# Altium schematic symbol library CUBIC_FC.SchLib: 143 symbols (part 6 of 8)
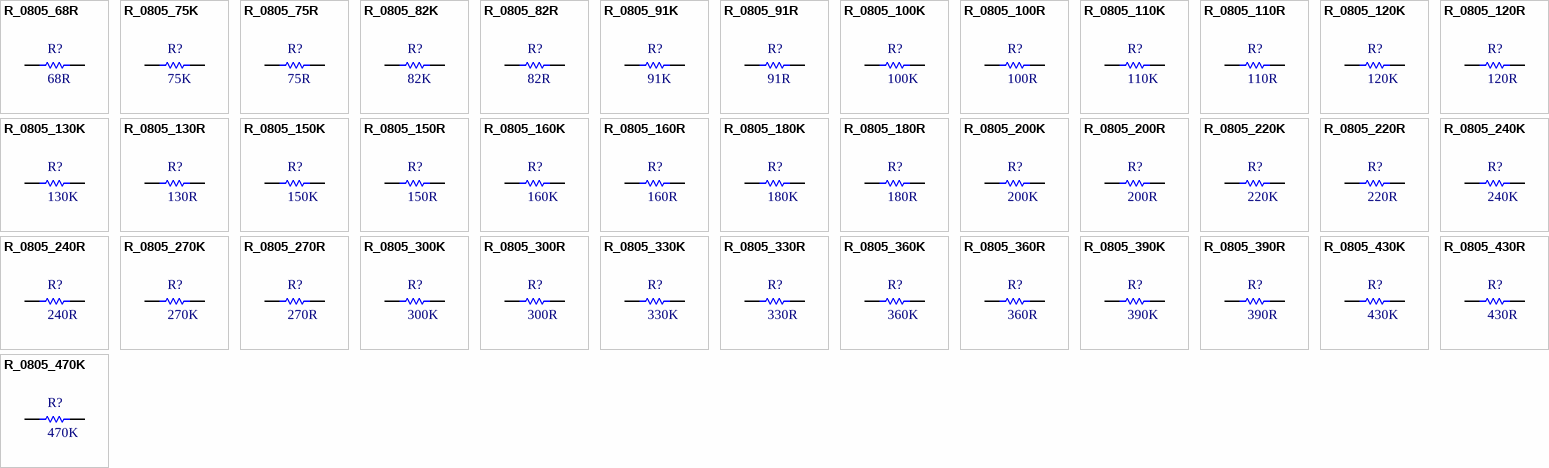
[diagram p8: symbols R_0805_68R to R_0805_470K]

## R_0805_150R
designator R?, comment 150R
Fixed Resistor, Metal Glaze/thick Film, 0.125W, 150ohm, 150V, 1% +/-Tol, 100ppm/Cel, Surface Mount, 0805; Manufacturer: Panasonic; Manufacturer Part Number: ERJ-6ENF1500V; Power: 125mW; Rated Temperature: 70°C; Temperature Coefficient: 100ppm/°C; Package Height: 0.6mm; Package Length: 2mm; Package Width: 1.25mm; Reference Standard: AEC-Q200; Supplier: Digikey; Supplier Part Number: P150CCT-ND; RoHS: Yes; Category: Chip SMD Resistors; Stock: 154466; Pricing: 1=0.11, 10=0.053, 50=0.0344, 100=0.0292, 500=0.02058, 1000=0.01792 (USD); Mounting Technology: Surface Mount; Pins: 2; Package Shape: Rectangular; Case/Package: 0805; Terminal Finish: Nickel; Min Operating Temperature: -55°C; Max Operating Temperature: 155°C; Tolerance: 1%; JESD-609 Code: e3; Resistor Type: FIXED RESISTOR; Construction: Rectangular; Package Style: SMTMeter; Packaging: Tape and Reel; Value: 150R; Technology: METAL GLAZE/THICK FILM; Termination: Wraparound; Working Voltage: 150V; Reach SVHC Compliant: Yes; RoHS Compliant: Yes; ComponentLink1URL: https://datasheet.ciiva.com:443/pdfs/VipMasterIC/IC/PANA/PANA-S-A0009889626/PANA-S-A0009889626-1.pdf?src-supplier=IHS+Markit; ComponentLink1Description: https://datasheet.ciiva.com:443/pdfs/VipMasterIC/IC/PANA/PANA-S-A0009889626/PANA-S-A0009889626-1.pdf?src-supplier=IHS+Markit; ComponentLink2URL: https://datasheet.ciiva.com/6082/426256-6082141.pdf?src-supplier=Farnell; ComponentLink2Description: https://datasheet.ciiva.com/6082/426256-6082141.pdf?src-supplier=Farnell; ComponentLink3URL: https://datasheet.ciiva.com/48531/aoa0000ce2-48531404.pdf?src-supplier=Avnet; ComponentLink3Description: https://datasheet.ciiva.com/48531/aoa0000ce2-48531404.pdf?src-supplier=Avnet
footprint R_0805 (Chip Resistor, 2-Leads, Body 2.00x1.25mm, IPC Low Density)
pins: 1, 2

## R_0805_160K
designator R?, comment 160K
Fixed Resistor, Metal Glaze/thick Film, 0.125W, 160000ohm, 150V, 1% +/-Tol, 100ppm/Cel, Surface Mount, 0805; Manufacturer: Panasonic; Manufacturer Part Number: ERJ-6ENF1603V; Power: 125mW; Rated Temperature: 70°C; Value: 160kR; Temperature Coefficient: 100ppm/°C; Package Height: 0.6mm; Package Length: 2mm; Package Width: 1.25mm; Reference Standard: AEC-Q200; Supplier: Digikey; Supplier Part Number: P160KCCT-ND; RoHS: Yes; Category: Chip SMD Resistors; Stock: 103946; Pricing: 1=0.11, 10=0.053, 50=0.0344, 100=0.0292, 500=0.02058, 1000=0.01792 (USD); Mounting Technology: Surface Mount; Pins: 2; Package Shape: Rectangular; Case/Package: 0805; Terminal Finish: Nickel; Min Operating Temperature: -55°C; Max Operating Temperature: 155°C; Tolerance: 1%; JESD-609 Code: e3; Resistor Type: FIXED RESISTOR; Construction: Rectangular; Package Style: SMTMeter; Packaging: Tape and Reel; Technology: METAL GLAZE/THICK FILM; Termination: Wraparound; Working Voltage: 150V; Reach SVHC Compliant: Yes; RoHS Compliant: Yes; ComponentLink1URL: https://datasheet.ciiva.com:443/pdfs/VipMasterIC/IC/PANA/PANA-S-A0009889626/PANA-S-A0009889626-1.pdf?src-supplier=IHS+Markit; ComponentLink1Description: https://datasheet.ciiva.com:443/pdfs/VipMasterIC/IC/PANA/PANA-S-A0009889626/PANA-S-A0009889626-1.pdf?src-supplier=IHS+Markit; ComponentLink2URL: https://datasheet.ciiva.com/9185/aoa0000ce2-9185402.pdf?src-supplier=Avnet; ComponentLink2Description: https://datasheet.ciiva.com/9185/aoa0000ce2-9185402.pdf?src-supplier=Avnet; ComponentLink3URL: https://datasheet.ciiva.com/22674/1678782-22674517.pdf?src-supplier=Element14; ComponentLink3Description: https://datasheet.ciiva.com/22674/1678782-22674517.pdf?src-supplier=Element14; ComponentLink4URL: https://datasheet.ciiva.com/22739/1678782-22739739.pdf?src-supplier=Element14; ComponentLink4Description: https://datasheet.ciiva.com/22739/1678782-22739739.pdf?src-supplier=Element14; ComponentLink5URL: https://datasheet.ciiva.com/46436/1678782-46436469.pdf?src-supplier=Element14; ComponentLink5Description: https://datasheet.ciiva.com/46436/1678782-46436469.pdf?src-supplier=Element14; ComponentLink6URL: https://datasheet.ciiva.com/46436/1678782-46436470.pdf?src-supplier=Element14; ComponentLink6Description: https://datasheet.ciiva.com/46436/1678782-46436470.pdf?src-supplier=Element14; ComponentLink7URL: https://datasheet.ciiva.com/24060/aoa0000ce2-24060654.pdf?src-supplier=Mouser; ComponentLink7Description: https://datasheet.ciiva.com/24060/aoa0000ce2-24060654.pdf?src-supplier=Mouser
footprint R_0805 (Chip Resistor, 2-Leads, Body 2.00x1.25mm, IPC Low Density)
pins: 1, 2

## R_0805_160R
designator R?, comment 160R
Fixed Resistor, Metal Glaze/thick Film, 0.125W, 160ohm, 150V, 1% +/-Tol, 100ppm/Cel, Surface Mount, 0805; Manufacturer: Panasonic; Manufacturer Part Number: ERJ-6ENF1600V; Power: 125mW; Rated Temperature: 70°C; Temperature Coefficient: 100ppm/°C; Package Height: 0.6mm; Package Length: 2mm; Package Width: 1.25mm; Reference Standard: AEC-Q200; Supplier: Digikey; Supplier Part Number: P160CCT-ND; RoHS: Yes; Category: Chip SMD Resistors; Stock: 83504; Pricing: 1=0.11, 10=0.053, 50=0.0344, 100=0.0292, 500=0.02058, 1000=0.01792 (USD); Mounting Technology: Surface Mount; Pins: 2; Package Shape: Rectangular; Case/Package: 0805; Terminal Finish: Nickel; Min Operating Temperature: -55°C; Max Operating Temperature: 155°C; Tolerance: 1%; JESD-609 Code: e3; Resistor Type: FIXED RESISTOR; Construction: Rectangular; Package Style: SMTMeter; Packaging: Tape and Reel; Value: 160R; Technology: METAL GLAZE/THICK FILM; Termination: Wraparound; Working Voltage: 150V; Reach SVHC Compliant: Yes; RoHS Compliant: Yes; ComponentLink1URL: https://datasheet.ciiva.com:443/pdfs/VipMasterIC/IC/PANA/PANA-S-A0009889626/PANA-S-A0009889626-1.pdf?src-supplier=IHS+Markit; ComponentLink1Description: https://datasheet.ciiva.com:443/pdfs/VipMasterIC/IC/PANA/PANA-S-A0009889626/PANA-S-A0009889626-1.pdf?src-supplier=IHS+Markit; ComponentLink2URL: https://datasheet.ciiva.com/11821/0900766b80f80784-11821554.pdf?src-supplier=Rs; ComponentLink2Description: https://datasheet.ciiva.com/11821/0900766b80f80784-11821554.pdf?src-supplier=Rs; ComponentLink3URL: https://datasheet.ciiva.com/9185/aoa0000ce2-9185326.pdf?src-supplier=Avnet; ComponentLink3Description: https://datasheet.ciiva.com/9185/aoa0000ce2-9185326.pdf?src-supplier=Avnet; ComponentLink4URL: https://datasheet.ciiva.com/30235/aoa0000ce2-30235786.pdf?src-supplier=Onlinecomponents.com; ComponentLink4Description: https://datasheet.ciiva.com/30235/aoa0000ce2-30235786.pdf?src-supplier=Onlinecomponents.com; ComponentLink5URL: https://datasheet.ciiva.com/22739/1678782-22739487.pdf?src-supplier=Element14; ComponentLink5Description: https://datasheet.ciiva.com/22739/1678782-22739487.pdf?src-supplier=Element14; ComponentLink6URL: https://datasheet.ciiva.com/46373/1678782-46373482.pdf?src-supplier=Element14; ComponentLink6Description: https://datasheet.ciiva.com/46373/1678782-46373482.pdf?src-supplier=Element14; ComponentLink7URL: https://datasheet.ciiva.com/46373/1678782-46373483.pdf?src-supplier=Element14; ComponentLink7Description: https://datasheet.ciiva.com/46373/1678782-46373483.pdf?src-supplier=Element14; ComponentLink8URL: https://datasheet.ciiva.com/24165/aoa0000ce2-24165414.pdf?src-supplier=Mouser; ComponentLink8Description: https://datasheet.ciiva.com/24165/aoa0000ce2-24165414.pdf?src-supplier=Mouser
footprint R_0805 (Chip Resistor, 2-Leads, Body 2.00x1.25mm, IPC Low Density)
pins: 1, 2

## R_0805_180K
designator R?, comment 180K
Fixed Resistor, Metal Glaze/thick Film, 0.125W, 180000ohm, 150V, 1% +/-Tol, 100ppm/Cel, Surface Mount, 0805; Manufacturer: Panasonic; Manufacturer Part Number: ERJ-6ENF1803V; Power: 125mW; Rated Temperature: 70°C; Value: 180kR; Temperature Coefficient: 100ppm/°C; Package Height: 0.6mm; Package Length: 2mm; Package Width: 1.25mm; Reference Standard: AEC-Q200; Supplier: Digikey; Supplier Part Number: P180KCCT-ND; RoHS: Yes; Category: Chip SMD Resistors; Stock: 63213; Pricing: 1=0.11, 10=0.053, 50=0.0344, 100=0.0292, 500=0.02058, 1000=0.01792 (USD); Mounting Technology: Surface Mount; Pins: 2; Package Shape: Rectangular; Case/Package: 0805; Terminal Finish: Nickel; Min Operating Temperature: -55°C; Max Operating Temperature: 155°C; Tolerance: 1%; JESD-609 Code: e3; Resistor Type: FIXED RESISTOR; Construction: Rectangular; Package Style: SMTMeter; Packaging: Tape and Reel; Technology: METAL GLAZE/THICK FILM; Termination: Wraparound; Working Voltage: 150V; Reach SVHC Compliant: Yes; RoHS Compliant: Yes; ComponentLink1URL: https://datasheet.ciiva.com:443/pdfs/VipMasterIC/IC/PANA/PANA-S-A0009889626/PANA-S-A0009889626-1.pdf?src-supplier=IHS+Markit; ComponentLink1Description: https://datasheet.ciiva.com:443/pdfs/VipMasterIC/IC/PANA/PANA-S-A0009889626/PANA-S-A0009889626-1.pdf?src-supplier=IHS+Markit; ComponentLink2URL: https://datasheet.ciiva.com/11821/0900766b80f80784-11821551.pdf?src-supplier=Rs; ComponentLink2Description: https://datasheet.ciiva.com/11821/0900766b80f80784-11821551.pdf?src-supplier=Rs; ComponentLink3URL: https://datasheet.ciiva.com/5915/426256-5915338.pdf?src-supplier=Farnell; ComponentLink3Description: https://datasheet.ciiva.com/5915/426256-5915338.pdf?src-supplier=Farnell; ComponentLink4URL: https://datasheet.ciiva.com/24024/aoa0000ce2-24024447.pdf?src-supplier=Mouser; ComponentLink4Description: https://datasheet.ciiva.com/24024/aoa0000ce2-24024447.pdf?src-supplier=Mouser; ComponentLink5URL: https://datasheet.ciiva.com/9185/aoa0000ce2-9185015.pdf?src-supplier=Avnet; ComponentLink5Description: https://datasheet.ciiva.com/9185/aoa0000ce2-9185015.pdf?src-supplier=Avnet; ComponentLink6URL: https://datasheet.ciiva.com/16758/70260748-16758997.pdf?src-supplier=Allied+Electronics; ComponentLink6Description: https://datasheet.ciiva.com/16758/70260748-16758997.pdf?src-supplier=Allied+Electronics; ComponentLink7URL: https://datasheet.ciiva.com/16780/70260748-16780877.pdf?src-supplier=Allied+Electronics; ComponentLink7Description: https://datasheet.ciiva.com/16780/70260748-16780877.pdf?src-supplier=Allied+Electronics; ComponentLink8URL: https://datasheet.ciiva.com/28568/1678782-28568746.pdf?src-supplier=Element14; ComponentLink8Description: https://datasheet.ciiva.com/28568/1678782-28568746.pdf?src-supplier=Element14; ComponentLink9URL: https://datasheet.ciiva.com/46398/1678782-46398138.pdf?src-supplier=Element14; ComponentLink9Description: https://datasheet.ciiva.com/46398/1678782-46398138.pdf?src-supplier=Element14; ComponentLink10URL: https://datasheet.ciiva.com/22681/1678782-22681691.pdf?src-supplier=Element14; ComponentLink10Description: https://datasheet.ciiva.com/22681/1678782-22681691.pdf?src-supplier=Element14; ComponentLink11URL: https://datasheet.ciiva.com/46398/1678782-46398137.pdf?src-supplier=Element14; ComponentLink11Description: https://datasheet.ciiva.com/46398/1678782-46398137.pdf?src-supplier=Element14; ComponentLink12URL: https://datasheet.ciiva.com/30187/aoa0000ce2-30187757.pdf?src-supplier=Onlinecomponents.com; ComponentLink12Description: https://datasheet.ciiva.com/30187/aoa0000ce2-30187757.pdf?src-supplier=Onlinecomponents.com; ComponentLink13URL: https://datasheet.ciiva.com/7836/426256-7836535.pdf?src-supplier=Element14; ComponentLink13Description: https://datasheet.ciiva.com/7836/426256-7836535.pdf?src-supplier=Element14; ComponentLink14URL: https://datasheet.ciiva.com/7836/426256-7836822.pdf?src-supplier=Element14; ComponentLink14Description: https://datasheet.ciiva.com/7836/426256-7836822.pdf?src-supplier=Element14
footprint R_0805 (Chip Resistor, 2-Leads, Body 2.00x1.25mm, IPC Low Density)
pins: 1, 2

## R_0805_180R
designator R?, comment 180R
Fixed Resistor, Metal Glaze/thick Film, 0.125W, 180ohm, 150V, 1% +/-Tol, 100ppm/Cel, Surface Mount, 0805; Manufacturer: Panasonic; Manufacturer Part Number: ERJ-6ENF1800V; Power: 125mW; Rated Temperature: 70°C; Temperature Coefficient: 100ppm/°C; Package Height: 0.6mm; Package Length: 2mm; Package Width: 1.25mm; Reference Standard: AEC-Q200; Supplier: Digikey; Supplier Part Number: P180CCT-ND; RoHS: Yes; Category: Chip SMD Resistors; Stock: 81166; Pricing: 1=0.11, 10=0.053, 50=0.0344, 100=0.0292, 500=0.02058, 1000=0.01792 (USD); Mounting Technology: Surface Mount; Pins: 2; Package Shape: Rectangular; Case/Package: 0805; Terminal Finish: Nickel; Min Operating Temperature: -55°C; Max Operating Temperature: 155°C; Tolerance: 1%; JESD-609 Code: e3; Resistor Type: FIXED RESISTOR; Construction: Rectangular; Package Style: SMTMeter; Packaging: Tape and Reel; Value: 180R; Technology: METAL GLAZE/THICK FILM; Termination: Wraparound; Working Voltage: 150V; Reach SVHC Compliant: Yes; RoHS Compliant: Yes; ComponentLink1URL: https://datasheet.ciiva.com:443/pdfs/VipMasterIC/IC/PANA/PANA-S-A0009889626/PANA-S-A0009889626-1.pdf?src-supplier=IHS+Markit; ComponentLink1Description: https://datasheet.ciiva.com:443/pdfs/VipMasterIC/IC/PANA/PANA-S-A0009889626/PANA-S-A0009889626-1.pdf?src-supplier=IHS+Markit; ComponentLink2URL: https://datasheet.ciiva.com/11821/0900766b80f80784-11821550.pdf?src-supplier=Rs; ComponentLink2Description: https://datasheet.ciiva.com/11821/0900766b80f80784-11821550.pdf?src-supplier=Rs; ComponentLink3URL: https://datasheet.ciiva.com/5860/426256-5860693.pdf?src-supplier=Farnell; ComponentLink3Description: https://datasheet.ciiva.com/5860/426256-5860693.pdf?src-supplier=Farnell; ComponentLink4URL: https://datasheet.ciiva.com/9184/aoa0000ce2-9184989.pdf?src-supplier=Avnet; ComponentLink4Description: https://datasheet.ciiva.com/9184/aoa0000ce2-9184989.pdf?src-supplier=Avnet; ComponentLink5URL: https://datasheet.ciiva.com/16774/70260748-16774028.pdf?src-supplier=Allied+Electronics; ComponentLink5Description: https://datasheet.ciiva.com/16774/70260748-16774028.pdf?src-supplier=Allied+Electronics; ComponentLink6URL: https://datasheet.ciiva.com/16785/70260748-16785036.pdf?src-supplier=Allied+Electronics; ComponentLink6Description: https://datasheet.ciiva.com/16785/70260748-16785036.pdf?src-supplier=Allied+Electronics; ComponentLink7URL: https://datasheet.ciiva.com/46398/1678782-46398149.pdf?src-supplier=Element14; ComponentLink7Description: https://datasheet.ciiva.com/46398/1678782-46398149.pdf?src-supplier=Element14; ComponentLink8URL: https://datasheet.ciiva.com/22684/1678782-22684795.pdf?src-supplier=Element14; ComponentLink8Description: https://datasheet.ciiva.com/22684/1678782-22684795.pdf?src-supplier=Element14; ComponentLink9URL: https://datasheet.ciiva.com/7909/426256-7909231.pdf?src-supplier=Element14; ComponentLink9Description: https://datasheet.ciiva.com/7909/426256-7909231.pdf?src-supplier=Element14; ComponentLink10URL: https://datasheet.ciiva.com/7909/426256-7909551.pdf?src-supplier=Element14; ComponentLink10Description: https://datasheet.ciiva.com/7909/426256-7909551.pdf?src-supplier=Element14; ComponentLink11URL: https://datasheet.ciiva.com/24071/aoa0000ce2-24071381.pdf?src-supplier=Mouser; ComponentLink11Description: https://datasheet.ciiva.com/24071/aoa0000ce2-24071381.pdf?src-supplier=Mouser
footprint R_0805 (Chip Resistor, 2-Leads, Body 2.00x1.25mm, IPC Low Density)
pins: 1, 2

## R_0805_200K
designator R?, comment 200K
Fixed Resistor, Metal Glaze/thick Film, 0.125W, 200000ohm, 150V, 1% +/-Tol, 100ppm/Cel, Surface Mount, 0805; Manufacturer: Panasonic; Manufacturer Part Number: ERJ-6ENF2003V; Power: 125mW; Rated Temperature: 70°C; Value: 200kR; Temperature Coefficient: 100ppm/°C; Package Height: 0.6mm; Package Length: 2mm; Package Width: 1.25mm; Reference Standard: AEC-Q200; Supplier: Digikey; Supplier Part Number: P200KCCT-ND; RoHS: Yes; Category: Chip SMD Resistors; Stock: 119968; Pricing: 1=0.11, 10=0.053, 50=0.0344, 100=0.0292, 500=0.02058, 1000=0.01792 (USD); Mounting Technology: Surface Mount; Pins: 2; Package Shape: Rectangular; Case/Package: 0805; Terminal Finish: Nickel; Min Operating Temperature: -55°C; Max Operating Temperature: 155°C; Tolerance: 1%; JESD-609 Code: e3; Resistor Type: FIXED RESISTOR; Construction: Rectangular; Package Style: SMTMeter; Packaging: Tape and Reel; Technology: METAL GLAZE/THICK FILM; Termination: Wraparound; Working Voltage: 150V; Reach SVHC Compliant: Yes; RoHS Compliant: Yes; ComponentLink1URL: https://datasheet.ciiva.com:443/pdfs/VipMasterIC/IC/PANA/PANA-S-A0009889626/PANA-S-A0009889626-1.pdf?src-supplier=IHS+Markit; ComponentLink1Description: https://datasheet.ciiva.com:443/pdfs/VipMasterIC/IC/PANA/PANA-S-A0009889626/PANA-S-A0009889626-1.pdf?src-supplier=IHS+Markit; ComponentLink2URL: https://datasheet.ciiva.com/3883/3984280s8821682n1386-3883650.pdf?src-supplier=Arrow+Electronics; ComponentLink2Description: https://datasheet.ciiva.com/3883/3984280s8821682n1386-3883650.pdf?src-supplier=Arrow+Electronics; ComponentLink3URL: https://datasheet.ciiva.com/11821/0900766b80f80784-11821569.pdf?src-supplier=Rs; ComponentLink3Description: https://datasheet.ciiva.com/11821/0900766b80f80784-11821569.pdf?src-supplier=Rs; ComponentLink4URL: https://datasheet.ciiva.com/5868/426256-5868186.pdf?src-supplier=Farnell; ComponentLink4Description: https://datasheet.ciiva.com/5868/426256-5868186.pdf?src-supplier=Farnell; ComponentLink5URL: https://datasheet.ciiva.com/24070/aoa0000ce2-24070837.pdf?src-supplier=Mouser; ComponentLink5Description: https://datasheet.ciiva.com/24070/aoa0000ce2-24070837.pdf?src-supplier=Mouser; ComponentLink6URL: https://datasheet.ciiva.com/28577/1678782-28577790.pdf?src-supplier=Element14; ComponentLink6Description: https://datasheet.ciiva.com/28577/1678782-28577790.pdf?src-supplier=Element14; ComponentLink7URL: https://datasheet.ciiva.com/28675/1678782-28675835.pdf?src-supplier=Element14; ComponentLink7Description: https://datasheet.ciiva.com/28675/1678782-28675835.pdf?src-supplier=Element14; ComponentLink8URL: https://datasheet.ciiva.com/46374/426256-46374223.pdf?src-supplier=Element14; ComponentLink8Description: https://datasheet.ciiva.com/46374/426256-46374223.pdf?src-supplier=Element14; ComponentLink9URL: https://datasheet.ciiva.com/30251/aoa0000ce2-30251689.pdf?src-supplier=Onlinecomponents.com; ComponentLink9Description: https://datasheet.ciiva.com/30251/aoa0000ce2-30251689.pdf?src-supplier=Onlinecomponents.com; ComponentLink10URL: https://datasheet.ciiva.com/16427/aoa0000ce2-16427100.pdf?src-supplier=Future+Electronics; ComponentLink10Description: https://datasheet.ciiva.com/16427/aoa0000ce2-16427100.pdf?src-supplier=Future+Electronics
footprint R_0805 (Chip Resistor, 2-Leads, Body 2.00x1.25mm, IPC Low Density)
pins: 1, 2

## R_0805_200R
designator R?, comment 200R
Fixed Resistor, Metal Glaze/thick Film, 0.125W, 200ohm, 150V, 1% +/-Tol, 100ppm/Cel, Surface Mount, 0805; Manufacturer: Panasonic; Manufacturer Part Number: ERJ-6ENF2000V; Power: 125mW; Rated Temperature: 70°C; Temperature Coefficient: 100ppm/°C; Package Height: 0.6mm; Package Length: 2mm; Package Width: 1.25mm; Reference Standard: AEC-Q200; Supplier: Digikey; Supplier Part Number: P200CCT-ND; RoHS: Yes; Category: Chip SMD Resistors; Stock: 72102; Pricing: 1=0.11, 10=0.053, 50=0.0344, 100=0.0292, 500=0.02058, 1000=0.01792 (USD); Mounting Technology: Surface Mount; Pins: 2; Package Shape: Rectangular; Case/Package: 0805; Terminal Finish: Nickel; Min Operating Temperature: -55°C; Max Operating Temperature: 155°C; Tolerance: 1%; JESD-609 Code: e3; Resistor Type: FIXED RESISTOR; Construction: Rectangular; Package Style: SMTMeter; Packaging: Tape and Reel; Value: 200R; Technology: METAL GLAZE/THICK FILM; Termination: Wraparound; Working Voltage: 150V; Reach SVHC Compliant: Yes; RoHS Compliant: Yes; ComponentLink1URL: https://datasheet.ciiva.com:443/pdfs/VipMasterIC/IC/PANA/PANA-S-A0009889626/PANA-S-A0009889626-1.pdf?src-supplier=IHS+Markit; ComponentLink1Description: https://datasheet.ciiva.com:443/pdfs/VipMasterIC/IC/PANA/PANA-S-A0009889626/PANA-S-A0009889626-1.pdf?src-supplier=IHS+Markit; ComponentLink2URL: https://datasheet.ciiva.com/6137/426256-6137576.pdf?src-supplier=Farnell; ComponentLink2Description: https://datasheet.ciiva.com/6137/426256-6137576.pdf?src-supplier=Farnell; ComponentLink3URL: https://datasheet.ciiva.com/43460/426256-43460012.pdf?src-supplier=Farnell; ComponentLink3Description: https://datasheet.ciiva.com/43460/426256-43460012.pdf?src-supplier=Farnell; ComponentLink4URL: https://datasheet.ciiva.com/9117/aoa0000ce2-9117436.pdf?src-supplier=Avnet; ComponentLink4Description: https://datasheet.ciiva.com/9117/aoa0000ce2-9117436.pdf?src-supplier=Avnet; ComponentLink5URL: https://datasheet.ciiva.com/24158/aoa0000ce2-24158747.pdf?src-supplier=Mouser; ComponentLink5Description: https://datasheet.ciiva.com/24158/aoa0000ce2-24158747.pdf?src-supplier=Mouser; ComponentLink6URL: https://datasheet.ciiva.com/28691/1678782-28691975.pdf?src-supplier=Element14; ComponentLink6Description: https://datasheet.ciiva.com/28691/1678782-28691975.pdf?src-supplier=Element14
footprint R_0805 (Chip Resistor, 2-Leads, Body 2.00x1.25mm, IPC Low Density)
pins: 1, 2

## R_0805_220K
designator R?, comment 220K
Fixed Resistor, Metal Glaze/thick Film, 0.125W, 220000ohm, 150V, 1% +/-Tol, 100ppm/Cel, Surface Mount, 0805; Manufacturer: Panasonic; Manufacturer Part Number: ERJ-6ENF2203V; Power: 125mW; Rated Temperature: 70°C; Value: 220kR; Temperature Coefficient: 100ppm/°C; Package Height: 0.6mm; Package Length: 2mm; Package Width: 1.25mm; Reference Standard: AEC-Q200; Supplier: Digikey; Supplier Part Number: P220KCCT-ND; RoHS: Yes; Category: Chip SMD Resistors; Stock: 154868; Pricing: 1=0.11, 10=0.053, 50=0.0344, 100=0.0292, 500=0.02058, 1000=0.01792 (USD); Mounting Technology: Surface Mount; Pins: 2; Package Shape: Rectangular; Case/Package: 0805; Terminal Finish: Nickel; Min Operating Temperature: -55°C; Max Operating Temperature: 155°C; Tolerance: 1%; JESD-609 Code: e3; Resistor Type: FIXED RESISTOR; Construction: Rectangular; Package Style: SMTMeter; Packaging: Tape and Reel; Technology: METAL GLAZE/THICK FILM; Termination: Wraparound; Working Voltage: 150V; Reach SVHC Compliant: Yes; RoHS Compliant: Yes; ComponentLink1URL: https://datasheet.ciiva.com:443/pdfs/VipMasterIC/IC/PANA/PANA-S-A0009889626/PANA-S-A0009889626-1.pdf?src-supplier=IHS+Markit; ComponentLink1Description: https://datasheet.ciiva.com:443/pdfs/VipMasterIC/IC/PANA/PANA-S-A0009889626/PANA-S-A0009889626-1.pdf?src-supplier=IHS+Markit; ComponentLink2URL: https://datasheet.ciiva.com/11821/0900766b80f80784-11821562.pdf?src-supplier=Rs; ComponentLink2Description: https://datasheet.ciiva.com/11821/0900766b80f80784-11821562.pdf?src-supplier=Rs; ComponentLink3URL: https://datasheet.ciiva.com/5868/426256-5868187.pdf?src-supplier=Farnell; ComponentLink3Description: https://datasheet.ciiva.com/5868/426256-5868187.pdf?src-supplier=Farnell; ComponentLink4URL: https://datasheet.ciiva.com/24162/aoa0000ce2-24162155.pdf?src-supplier=Mouser; ComponentLink4Description: https://datasheet.ciiva.com/24162/aoa0000ce2-24162155.pdf?src-supplier=Mouser; ComponentLink5URL: https://datasheet.ciiva.com/22673/1678782-22673291.pdf?src-supplier=Element14; ComponentLink5Description: https://datasheet.ciiva.com/22673/1678782-22673291.pdf?src-supplier=Element14; ComponentLink6URL: https://datasheet.ciiva.com/46420/1678782-46420184.pdf?src-supplier=Element14; ComponentLink6Description: https://datasheet.ciiva.com/46420/1678782-46420184.pdf?src-supplier=Element14; ComponentLink7URL: https://datasheet.ciiva.com/16725/70260748-16725032.pdf?src-supplier=Allied+Electronics; ComponentLink7Description: https://datasheet.ciiva.com/16725/70260748-16725032.pdf?src-supplier=Allied+Electronics; ComponentLink8URL: https://datasheet.ciiva.com/28547/1678782-28547244.pdf?src-supplier=Element14; ComponentLink8Description: https://datasheet.ciiva.com/28547/1678782-28547244.pdf?src-supplier=Element14; ComponentLink9URL: https://datasheet.ciiva.com/30152/aoa0000ce2-30152219.pdf?src-supplier=Onlinecomponents.com; ComponentLink9Description: https://datasheet.ciiva.com/30152/aoa0000ce2-30152219.pdf?src-supplier=Onlinecomponents.com
footprint R_0805 (Chip Resistor, 2-Leads, Body 2.00x1.25mm, IPC Low Density)
pins: 1, 2

## R_0805_220R
designator R?, comment 220R
Fixed Resistor, Metal Glaze/thick Film, 0.125W, 220ohm, 150V, 1% +/-Tol, 100ppm/Cel, Surface Mount, 0805; Manufacturer: Panasonic; Manufacturer Part Number: ERJ-6ENF2200V; Power: 125mW; Rated Temperature: 70°C; Temperature Coefficient: 100ppm/°C; Package Height: 0.6mm; Package Length: 2mm; Package Width: 1.25mm; Reference Standard: AEC-Q200; Supplier: Digikey; Supplier Part Number: P220CCT-ND; RoHS: Yes; Category: Chip SMD Resistors; Stock: 332957; Pricing: 1=0.11, 10=0.053, 50=0.0344, 100=0.0292, 500=0.02058, 1000=0.01792 (USD); Mounting Technology: Surface Mount; Pins: 2; Package Shape: Rectangular; Case/Package: 0805; Terminal Finish: Nickel; Min Operating Temperature: -55°C; Max Operating Temperature: 155°C; Tolerance: 1%; JESD-609 Code: e3; Resistor Type: FIXED RESISTOR; Construction: Rectangular; Package Style: SMTMeter; Packaging: Tape and Reel; Value: 220R; Technology: METAL GLAZE/THICK FILM; Termination: Wraparound; Working Voltage: 150V; Reach SVHC Compliant: Yes; RoHS Compliant: Yes; ComponentLink1URL: https://datasheet.ciiva.com:443/pdfs/VipMasterIC/IC/PANA/PANA-S-A0009889626/PANA-S-A0009889626-1.pdf?src-supplier=IHS+Markit; ComponentLink1Description: https://datasheet.ciiva.com:443/pdfs/VipMasterIC/IC/PANA/PANA-S-A0009889626/PANA-S-A0009889626-1.pdf?src-supplier=IHS+Markit; ComponentLink2URL: http://www.farnell.com/datasheets/426256.pdf?src-supplier=Farnell; ComponentLink2Description: http://www.farnell.com/datasheets/426256.pdf?src-supplier=Farnell; ComponentLink3URL: https://datasheet.octopart.com/ERJ-6ENF2200V-Panasonic-datasheet-5313456.pdf?src-supplier=Farnell; ComponentLink3Description: https://datasheet.octopart.com/ERJ-6ENF2200V-Panasonic-datasheet-5313456.pdf?src-supplier=Farnell
footprint R_0805 (Chip Resistor, 2-Leads, Body 2.00x1.25mm, IPC Low Density)
pins: 1, 2

## R_0805_240K
designator R?, comment 240K
Fixed Resistor, Metal Glaze/thick Film, 0.125W, 240000ohm, 150V, 1% +/-Tol, 100ppm/Cel, Surface Mount, 0805; Manufacturer: Panasonic; Manufacturer Part Number: ERJ-6ENF2403V; Power: 125mW; Rated Temperature: 70°C; Value: 240kR; Temperature Coefficient: 100ppm/°C; Package Height: 0.6mm; Package Length: 2mm; Package Width: 1.25mm; Reference Standard: AEC-Q200; Supplier: Digikey; Supplier Part Number: P240KCCT-ND; RoHS: Yes; Category: Chip SMD Resistors; Stock: 69288; Pricing: 1=0.11, 10=0.053, 50=0.0344, 100=0.0292, 500=0.02058, 1000=0.01792 (USD); Mounting Technology: Surface Mount; Pins: 2; Package Shape: Rectangular; Case/Package: 0805; Terminal Finish: Nickel; Min Operating Temperature: -55°C; Max Operating Temperature: 155°C; Tolerance: 1%; JESD-609 Code: e3; Resistor Type: FIXED RESISTOR; Construction: Rectangular; Package Style: SMTMeter; Packaging: Tape and Reel; Technology: METAL GLAZE/THICK FILM; Termination: Wraparound; Working Voltage: 150V; Reach SVHC Compliant: Yes; RoHS Compliant: Yes; ComponentLink1URL: https://datasheet.ciiva.com:443/pdfs/VipMasterIC/IC/PANA/PANA-S-A0009889626/PANA-S-A0009889626-1.pdf?src-supplier=IHS+Markit; ComponentLink1Description: https://datasheet.ciiva.com:443/pdfs/VipMasterIC/IC/PANA/PANA-S-A0009889626/PANA-S-A0009889626-1.pdf?src-supplier=IHS+Markit; ComponentLink2URL: https://datasheet.ciiva.com/22674/1678782-22674518.pdf?src-supplier=Element14; ComponentLink2Description: https://datasheet.ciiva.com/22674/1678782-22674518.pdf?src-supplier=Element14; ComponentLink3URL: https://datasheet.ciiva.com/22739/1678782-22739740.pdf?src-supplier=Element14; ComponentLink3Description: https://datasheet.ciiva.com/22739/1678782-22739740.pdf?src-supplier=Element14; ComponentLink4URL: https://datasheet.ciiva.com/46436/1678782-46436471.pdf?src-supplier=Element14; ComponentLink4Description: https://datasheet.ciiva.com/46436/1678782-46436471.pdf?src-supplier=Element14
footprint R_0805 (Chip Resistor, 2-Leads, Body 2.00x1.25mm, IPC Low Density)
pins: 1, 2

## R_0805_240R
designator R?, comment 240R
Fixed Resistor, Metal Glaze/thick Film, 0.125W, 240ohm, 150V, 1% +/-Tol, 100ppm/Cel, Surface Mount, 0805; Manufacturer: Panasonic; Manufacturer Part Number: ERJ-6ENF2400V; Power: 125mW; Rated Temperature: 70°C; Temperature Coefficient: 100ppm/°C; Package Height: 0.6mm; Package Length: 2mm; Package Width: 1.25mm; Reference Standard: AEC-Q200; Supplier: Digikey; Supplier Part Number: P240CCT-ND; RoHS: Yes; Category: Chip SMD Resistors; Stock: 102432; Pricing: 1=0.11, 10=0.053, 50=0.0344, 100=0.0292, 500=0.02058, 1000=0.01792 (USD); Mounting Technology: Surface Mount; Pins: 2; Package Shape: Rectangular; Case/Package: 0805; Terminal Finish: Nickel; Min Operating Temperature: -55°C; Max Operating Temperature: 155°C; Tolerance: 1%; JESD-609 Code: e3; Resistor Type: FIXED RESISTOR; Construction: Rectangular; Package Style: SMTMeter; Packaging: Tape and Reel; Value: 240R; Technology: METAL GLAZE/THICK FILM; Termination: Wraparound; Working Voltage: 150V; Reach SVHC Compliant: Yes; RoHS Compliant: Yes; ComponentLink1URL: https://datasheet.ciiva.com:443/pdfs/VipMasterIC/IC/PANA/PANA-S-A0009889626/PANA-S-A0009889626-1.pdf?src-supplier=IHS+Markit; ComponentLink1Description: https://datasheet.ciiva.com:443/pdfs/VipMasterIC/IC/PANA/PANA-S-A0009889626/PANA-S-A0009889626-1.pdf?src-supplier=IHS+Markit; ComponentLink2URL: https://datasheet.ciiva.com/22681/1678782-22681196.pdf?src-supplier=Element14; ComponentLink2Description: https://datasheet.ciiva.com/22681/1678782-22681196.pdf?src-supplier=Element14; ComponentLink3URL: https://datasheet.ciiva.com/24026/aoa0000ce2-24026057.pdf?src-supplier=Mouser; ComponentLink3Description: https://datasheet.ciiva.com/24026/aoa0000ce2-24026057.pdf?src-supplier=Mouser; ComponentLink4URL: https://datasheet.ciiva.com/46373/1678782-46373645.pdf?src-supplier=Element14; ComponentLink4Description: https://datasheet.ciiva.com/46373/1678782-46373645.pdf?src-supplier=Element14; ComponentLink5URL: https://datasheet.ciiva.com/46373/1678782-46373646.pdf?src-supplier=Element14; ComponentLink5Description: https://datasheet.ciiva.com/46373/1678782-46373646.pdf?src-supplier=Element14
footprint R_0805 (Chip Resistor, 2-Leads, Body 2.00x1.25mm, IPC Low Density)
pins: 1, 2

## R_0805_270K
designator R?, comment 270K
Fixed Resistor, Metal Glaze/thick Film, 0.125W, 270000ohm, 150V, 1% +/-Tol, 100ppm/Cel, Surface Mount, 0805; Manufacturer: Panasonic; Manufacturer Part Number: ERJ-6ENF2703V; Power: 125mW; Rated Temperature: 70°C; Value: 270kR; Temperature Coefficient: 100ppm/°C; Package Height: 0.6mm; Package Length: 2mm; Package Width: 1.25mm; Reference Standard: AEC-Q200; Supplier: Digikey; Supplier Part Number: P270KCCT-ND; RoHS: Yes; Category: Chip SMD Resistors; Stock: 29703; Pricing: 1=0.11, 10=0.053, 50=0.0344, 100=0.0292, 500=0.02058, 1000=0.01792 (USD); Mounting Technology: Surface Mount; Pins: 2; Package Shape: Rectangular; Case/Package: 0805; Terminal Finish: Nickel; Min Operating Temperature: -55°C; Max Operating Temperature: 155°C; Tolerance: 1%; JESD-609 Code: e3; Resistor Type: FIXED RESISTOR; Construction: Rectangular; Package Style: SMTMeter; Packaging: Tape and Reel; Technology: METAL GLAZE/THICK FILM; Termination: Wraparound; Working Voltage: 150V; Reach SVHC Compliant: Yes; RoHS Compliant: Yes; ComponentLink1URL: https://datasheet.ciiva.com:443/pdfs/VipMasterIC/IC/PANA/PANA-S-A0009889626/PANA-S-A0009889626-1.pdf?src-supplier=IHS+Markit; ComponentLink1Description: https://datasheet.ciiva.com:443/pdfs/VipMasterIC/IC/PANA/PANA-S-A0009889626/PANA-S-A0009889626-1.pdf?src-supplier=IHS+Markit; ComponentLink2URL: https://datasheet.ciiva.com/11821/0900766b80f80784-11821584.pdf?src-supplier=Rs; ComponentLink2Description: https://datasheet.ciiva.com/11821/0900766b80f80784-11821584.pdf?src-supplier=Rs; ComponentLink3URL: https://datasheet.ciiva.com/22763/1678782-22763354.pdf?src-supplier=Farnell; ComponentLink3Description: https://datasheet.ciiva.com/22763/1678782-22763354.pdf?src-supplier=Farnell; ComponentLink4URL: https://datasheet.ciiva.com/22682/1678782-22682202.pdf?src-supplier=Element14; ComponentLink4Description: https://datasheet.ciiva.com/22682/1678782-22682202.pdf?src-supplier=Element14; ComponentLink5URL: https://datasheet.ciiva.com/46441/1678782-46441404.pdf?src-supplier=Element14; ComponentLink5Description: https://datasheet.ciiva.com/46441/1678782-46441404.pdf?src-supplier=Element14; ComponentLink6URL: https://datasheet.ciiva.com/7836/426256-7836537.pdf?src-supplier=Element14; ComponentLink6Description: https://datasheet.ciiva.com/7836/426256-7836537.pdf?src-supplier=Element14; ComponentLink7URL: https://datasheet.ciiva.com/7836/426256-7836823.pdf?src-supplier=Element14; ComponentLink7Description: https://datasheet.ciiva.com/7836/426256-7836823.pdf?src-supplier=Element14; ComponentLink8URL: https://datasheet.ciiva.com/5915/426256-5915339.pdf?src-supplier=Farnell; ComponentLink8Description: https://datasheet.ciiva.com/5915/426256-5915339.pdf?src-supplier=Farnell; ComponentLink9URL: https://datasheet.ciiva.com/9183/aoa0000ce2-9183710.pdf?src-supplier=Avnet; ComponentLink9Description: https://datasheet.ciiva.com/9183/aoa0000ce2-9183710.pdf?src-supplier=Avnet; ComponentLink10URL: https://datasheet.ciiva.com/24161/aoa0000ce2-24161017.pdf?src-supplier=Mouser; ComponentLink10Description: https://datasheet.ciiva.com/24161/aoa0000ce2-24161017.pdf?src-supplier=Mouser
footprint R_0805 (Chip Resistor, 2-Leads, Body 2.00x1.25mm, IPC Low Density)
pins: 1, 2

## R_0805_270R
designator R?, comment 270R
Fixed Resistor, Metal Glaze/thick Film, 0.125W, 270ohm, 150V, 1% +/-Tol, 100ppm/Cel, Surface Mount, 0805; Manufacturer: Panasonic; Manufacturer Part Number: ERJ-6ENF2700V; Power: 125mW; Rated Temperature: 70°C; Temperature Coefficient: 100ppm/°C; Package Height: 0.6mm; Package Length: 2mm; Package Width: 1.25mm; Reference Standard: AEC-Q200; Supplier: Digikey; Supplier Part Number: P270CCT-ND; RoHS: Yes; Category: Chip SMD Resistors; Stock: 146371; Pricing: 1=0.11, 10=0.053, 50=0.0344, 100=0.0292, 500=0.02058, 1000=0.01792 (USD); Mounting Technology: Surface Mount; Pins: 2; Package Shape: Rectangular; Case/Package: 0805; Terminal Finish: Nickel; Min Operating Temperature: -55°C; Max Operating Temperature: 155°C; Tolerance: 1%; JESD-609 Code: e3; Resistor Type: FIXED RESISTOR; Construction: Rectangular; Package Style: SMTMeter; Packaging: Tape and Reel; Value: 270R; Technology: METAL GLAZE/THICK FILM; Termination: Wraparound; Working Voltage: 150V; Reach SVHC Compliant: Yes; RoHS Compliant: Yes; ComponentLink1URL: https://datasheet.ciiva.com:443/pdfs/VipMasterIC/IC/PANA/PANA-S-A0009889626/PANA-S-A0009889626-1.pdf?src-supplier=IHS+Markit; ComponentLink1Description: https://datasheet.ciiva.com:443/pdfs/VipMasterIC/IC/PANA/PANA-S-A0009889626/PANA-S-A0009889626-1.pdf?src-supplier=IHS+Markit; ComponentLink2URL: https://datasheet.ciiva.com/5860/426256-5860695.pdf?src-supplier=Farnell; ComponentLink2Description: https://datasheet.ciiva.com/5860/426256-5860695.pdf?src-supplier=Farnell; ComponentLink3URL: https://datasheet.ciiva.com/9183/aoa0000ce2-9183741.pdf?src-supplier=Avnet; ComponentLink3Description: https://datasheet.ciiva.com/9183/aoa0000ce2-9183741.pdf?src-supplier=Avnet
footprint R_0805 (Chip Resistor, 2-Leads, Body 2.00x1.25mm, IPC Low Density)
pins: 1, 2

## R_0805_300K
designator R?, comment 300K
Fixed Resistor, Metal Glaze/thick Film, 0.125W, 300000ohm, 150V, 1% +/-Tol, 100ppm/Cel, Surface Mount, 0805; Manufacturer: Panasonic; Manufacturer Part Number: ERJ-6ENF3003V; Power: 125mW; Rated Temperature: 70°C; Value: 300kR; Temperature Coefficient: 100ppm/°C; Package Height: 0.6mm; Package Length: 2mm; Package Width: 1.25mm; Reference Standard: AEC-Q200; Supplier: Digikey; Supplier Part Number: P300KCCT-ND; RoHS: Yes; Category: Chip SMD Resistors; Stock: 127760; Pricing: 1=0.11, 10=0.053, 50=0.0344, 100=0.0292, 500=0.02058, 1000=0.01792 (USD); Mounting Technology: Surface Mount; Pins: 2; Package Shape: Rectangular; Case/Package: 0805; Terminal Finish: Nickel; Min Operating Temperature: -55°C; Max Operating Temperature: 155°C; Tolerance: 1%; JESD-609 Code: e3; Resistor Type: FIXED RESISTOR; Construction: Rectangular; Package Style: SMTMeter; Packaging: Tape and Reel; Technology: METAL GLAZE/THICK FILM; Termination: Wraparound; Working Voltage: 150V; Reach SVHC Compliant: Yes; RoHS Compliant: Yes; ComponentLink1URL: https://datasheet.ciiva.com:443/pdfs/VipMasterIC/IC/PANA/PANA-S-A0009889626/PANA-S-A0009889626-1.pdf?src-supplier=IHS+Markit; ComponentLink1Description: https://datasheet.ciiva.com:443/pdfs/VipMasterIC/IC/PANA/PANA-S-A0009889626/PANA-S-A0009889626-1.pdf?src-supplier=IHS+Markit; ComponentLink2URL: https://datasheet.ciiva.com/11821/0900766b80f80784-11821603.pdf?src-supplier=Rs; ComponentLink2Description: https://datasheet.ciiva.com/11821/0900766b80f80784-11821603.pdf?src-supplier=Rs; ComponentLink3URL: https://datasheet.ciiva.com/9183/aoa0000ce2-9183388.pdf?src-supplier=Avnet; ComponentLink3Description: https://datasheet.ciiva.com/9183/aoa0000ce2-9183388.pdf?src-supplier=Avnet; ComponentLink4URL: https://datasheet.ciiva.com/16757/70260748-16757806.pdf?src-supplier=Allied+Electronics; ComponentLink4Description: https://datasheet.ciiva.com/16757/70260748-16757806.pdf?src-supplier=Allied+Electronics; ComponentLink5URL: https://datasheet.ciiva.com/16762/70260748-16762315.pdf?src-supplier=Allied+Electronics; ComponentLink5Description: https://datasheet.ciiva.com/16762/70260748-16762315.pdf?src-supplier=Allied+Electronics; ComponentLink6URL: https://datasheet.ciiva.com/22681/1678782-22681198.pdf?src-supplier=Element14; ComponentLink6Description: https://datasheet.ciiva.com/22681/1678782-22681198.pdf?src-supplier=Element14; ComponentLink7URL: https://datasheet.ciiva.com/46441/1678782-46441407.pdf?src-supplier=Element14; ComponentLink7Description: https://datasheet.ciiva.com/46441/1678782-46441407.pdf?src-supplier=Element14; ComponentLink8URL: https://datasheet.ciiva.com/7795/1678782-7795549.pdf?src-supplier=Element14; ComponentLink8Description: https://datasheet.ciiva.com/7795/1678782-7795549.pdf?src-supplier=Element14; ComponentLink9URL: https://datasheet.ciiva.com/24071/aoa0000ce2-24071765.pdf?src-supplier=Mouser; ComponentLink9Description: https://datasheet.ciiva.com/24071/aoa0000ce2-24071765.pdf?src-supplier=Mouser
footprint R_0805 (Chip Resistor, 2-Leads, Body 2.00x1.25mm, IPC Low Density)
pins: 1, 2

## R_0805_300R
designator R?, comment 300R
Fixed Resistor, Metal Glaze/thick Film, 0.125W, 300ohm, 150V, 1% +/-Tol, 100ppm/Cel, Surface Mount, 0805; Manufacturer: Panasonic; Manufacturer Part Number: ERJ-6ENF3000V; Power: 125mW; Rated Temperature: 70°C; Temperature Coefficient: 100ppm/°C; Package Height: 0.6mm; Package Length: 2mm; Package Width: 1.25mm; Reference Standard: AEC-Q200; Supplier: Digikey; Supplier Part Number: P300CCT-ND; RoHS: Yes; Category: Chip SMD Resistors; Stock: 111331; Pricing: 1=0.11, 10=0.053, 50=0.0344, 100=0.0292, 500=0.02058, 1000=0.01792 (USD); Mounting Technology: Surface Mount; Pins: 2; Package Shape: Rectangular; Case/Package: 0805; Terminal Finish: Nickel; Min Operating Temperature: -55°C; Max Operating Temperature: 155°C; Tolerance: 1%; JESD-609 Code: e3; Resistor Type: FIXED RESISTOR; Construction: Rectangular; Package Style: SMTMeter; Packaging: Tape and Reel; Value: 300R; Technology: METAL GLAZE/THICK FILM; Termination: Wraparound; Working Voltage: 150V; Reach SVHC Compliant: Yes; RoHS Compliant: Yes; ComponentLink1URL: https://datasheet.ciiva.com:443/pdfs/VipMasterIC/IC/PANA/PANA-S-A0009889626/PANA-S-A0009889626-1.pdf?src-supplier=IHS+Markit; ComponentLink1Description: https://datasheet.ciiva.com:443/pdfs/VipMasterIC/IC/PANA/PANA-S-A0009889626/PANA-S-A0009889626-1.pdf?src-supplier=IHS+Markit; ComponentLink2URL: https://datasheet.ciiva.com/9183/aoa0000ce2-9183350.pdf?src-supplier=Avnet; ComponentLink2Description: https://datasheet.ciiva.com/9183/aoa0000ce2-9183350.pdf?src-supplier=Avnet; ComponentLink3URL: https://datasheet.ciiva.com/30132/aoa0000ce2-30132023.pdf?src-supplier=Onlinecomponents.com; ComponentLink3Description: https://datasheet.ciiva.com/30132/aoa0000ce2-30132023.pdf?src-supplier=Onlinecomponents.com; ComponentLink4URL: https://datasheet.ciiva.com/22681/1678782-22681692.pdf?src-supplier=Element14; ComponentLink4Description: https://datasheet.ciiva.com/22681/1678782-22681692.pdf?src-supplier=Element14; ComponentLink5URL: https://datasheet.ciiva.com/46373/1678782-46373662.pdf?src-supplier=Element14; ComponentLink5Description: https://datasheet.ciiva.com/46373/1678782-46373662.pdf?src-supplier=Element14; ComponentLink6URL: https://datasheet.ciiva.com/46373/1678782-46373663.pdf?src-supplier=Element14; ComponentLink6Description: https://datasheet.ciiva.com/46373/1678782-46373663.pdf?src-supplier=Element14; ComponentLink7URL: https://datasheet.ciiva.com/7711/1678782-7711061.pdf?src-supplier=Element14; ComponentLink7Description: https://datasheet.ciiva.com/7711/1678782-7711061.pdf?src-supplier=Element14
footprint R_0805 (Chip Resistor, 2-Leads, Body 2.00x1.25mm, IPC Low Density)
pins: 1, 2

## R_0805_330K
designator R?, comment 330K
Fixed Resistor, Metal Glaze/thick Film, 0.125W, 330000ohm, 150V, 1% +/-Tol, 100ppm/Cel, Surface Mount, 0805; Manufacturer: Panasonic; Manufacturer Part Number: ERJ-6ENF3303V; Power: 125mW; Rated Temperature: 70°C; Value: 330kR; Temperature Coefficient: 100ppm/°C; Package Height: 0.6mm; Package Length: 2mm; Package Width: 1.25mm; Reference Standard: AEC-Q200; Supplier: Digikey; Supplier Part Number: P330KCCT-ND; RoHS: Yes; Category: Chip SMD Resistors; Stock: 432191; Pricing: 1=0.11, 10=0.053, 50=0.0344, 100=0.0292, 500=0.02058, 1000=0.01792 (USD); Mounting Technology: Surface Mount; Pins: 2; Package Shape: Rectangular; Case/Package: 0805; Terminal Finish: Nickel; Min Operating Temperature: -55°C; Max Operating Temperature: 155°C; Tolerance: 1%; JESD-609 Code: e3; Resistor Type: FIXED RESISTOR; Construction: Rectangular; Package Style: SMTMeter; Packaging: Tape and Reel; Technology: METAL GLAZE/THICK FILM; Termination: Wraparound; Working Voltage: 150V; Reach SVHC Compliant: Yes; RoHS Compliant: Yes; ComponentLink1URL: https://datasheet.ciiva.com:443/pdfs/VipMasterIC/IC/PANA/PANA-S-A0009889626/PANA-S-A0009889626-1.pdf?src-supplier=IHS+Markit; ComponentLink1Description: https://datasheet.ciiva.com:443/pdfs/VipMasterIC/IC/PANA/PANA-S-A0009889626/PANA-S-A0009889626-1.pdf?src-supplier=IHS+Markit; ComponentLink2URL: https://datasheet.ciiva.com/11821/0900766b80f80784-11821637.pdf?src-supplier=Rs; ComponentLink2Description: https://datasheet.ciiva.com/11821/0900766b80f80784-11821637.pdf?src-supplier=Rs; ComponentLink3URL: https://datasheet.ciiva.com/5915/426256-5915341.pdf?src-supplier=Farnell; ComponentLink3Description: https://datasheet.ciiva.com/5915/426256-5915341.pdf?src-supplier=Farnell; ComponentLink4URL: https://datasheet.ciiva.com/22687/1678782-22687438.pdf?src-supplier=Element14; ComponentLink4Description: https://datasheet.ciiva.com/22687/1678782-22687438.pdf?src-supplier=Element14; ComponentLink5URL: https://datasheet.ciiva.com/22673/1678782-22673294.pdf?src-supplier=Element14; ComponentLink5Description: https://datasheet.ciiva.com/22673/1678782-22673294.pdf?src-supplier=Element14; ComponentLink6URL: https://datasheet.ciiva.com/46420/1678782-46420183.pdf?src-supplier=Element14; ComponentLink6Description: https://datasheet.ciiva.com/46420/1678782-46420183.pdf?src-supplier=Element14; ComponentLink7URL: https://datasheet.ciiva.com/7836/426256-7836539.pdf?src-supplier=Element14; ComponentLink7Description: https://datasheet.ciiva.com/7836/426256-7836539.pdf?src-supplier=Element14; ComponentLink8URL: https://datasheet.ciiva.com/7836/426256-7836824.pdf?src-supplier=Element14; ComponentLink8Description: https://datasheet.ciiva.com/7836/426256-7836824.pdf?src-supplier=Element14; ComponentLink9URL: https://datasheet.ciiva.com/16761/70260748-16761642.pdf?src-supplier=Allied+Electronics; ComponentLink9Description: https://datasheet.ciiva.com/16761/70260748-16761642.pdf?src-supplier=Allied+Electronics
footprint R_0805 (Chip Resistor, 2-Leads, Body 2.00x1.25mm, IPC Low Density)
pins: 1, 2

## R_0805_330R
designator R?, comment 330R
Fixed Resistor, Metal Glaze/thick Film, 0.125W, 330ohm, 150V, 1% +/-Tol, 100ppm/Cel, Surface Mount, 0805; Manufacturer: Panasonic; Manufacturer Part Number: ERJ-6ENF3300V; Power: 125mW; Rated Temperature: 70°C; Temperature Coefficient: 100ppm/°C; Package Height: 0.6mm; Package Length: 2mm; Package Width: 1.25mm; Reference Standard: AEC-Q200; Supplier: Digikey; Supplier Part Number: P330CCT-ND; RoHS: Yes; Category: Chip SMD Resistors; Stock: 59814; Pricing: 1=0.11, 10=0.053, 50=0.0344, 100=0.0292, 500=0.02058, 1000=0.01792 (USD); Mounting Technology: Surface Mount; Pins: 2; Package Shape: Rectangular; Case/Package: 0805; Terminal Finish: Nickel; Min Operating Temperature: -55°C; Max Operating Temperature: 155°C; Tolerance: 1%; JESD-609 Code: e3; Resistor Type: FIXED RESISTOR; Construction: Rectangular; Package Style: SMTMeter; Packaging: Tape and Reel; Value: 330R; Technology: METAL GLAZE/THICK FILM; Termination: Wraparound; Working Voltage: 150V; Reach SVHC Compliant: Yes; RoHS Compliant: Yes; ComponentLink1URL: https://datasheet.ciiva.com:443/pdfs/VipMasterIC/IC/PANA/PANA-S-A0009889626/PANA-S-A0009889626-1.pdf?src-supplier=IHS+Markit; ComponentLink1Description: https://datasheet.ciiva.com:443/pdfs/VipMasterIC/IC/PANA/PANA-S-A0009889626/PANA-S-A0009889626-1.pdf?src-supplier=IHS+Markit; ComponentLink2URL: https://industrial.panasonic.com/cdbs/www-data/pdf/RDM0000/DMM0000COL11.pdf?src-supplier=Digikey; ComponentLink2Description: https://industrial.panasonic.com/cdbs/www-data/pdf/RDM0000/DMM0000COL11.pdf?src-supplier=Digikey; ComponentLink3URL: https://industrial.panasonic.com/cdbs/www-data/pdf/RDA0000/AOA0000C304.pdf?src-supplier=Digikey; ComponentLink3Description: https://industrial.panasonic.com/cdbs/www-data/pdf/RDA0000/AOA0000C304.pdf?src-supplier=Digikey; ComponentLink4URL: http://www.farnell.com/datasheets/426256.pdf?src-supplier=Element14; ComponentLink4Description: http://www.farnell.com/datasheets/426256.pdf?src-supplier=Element14; ComponentLink5URL: https://datasheet.octopart.com/ERJ-6ENF3300V-Panasonic-datasheet-154766169.pdf?src-supplier=Master+Electronics; ComponentLink5Description: https://datasheet.octopart.com/ERJ-6ENF3300V-Panasonic-datasheet-154766169.pdf?src-supplier=Master+Electronics
footprint R_0805 (Chip Resistor, 2-Leads, Body 2.00x1.25mm, IPC Low Density)
pins: 1, 2

## R_0805_360K
designator R?, comment 360K
Fixed Resistor, Metal Glaze/thick Film, 0.125W, 360000ohm, 150V, 1% +/-Tol, 100ppm/Cel, Surface Mount, 0805; Manufacturer: Panasonic; Manufacturer Part Number: ERJ-6ENF3603V; Power: 125mW; Rated Temperature: 70°C; Value: 360kR; Temperature Coefficient: 100ppm/°C; Package Height: 0.6mm; Package Length: 2mm; Package Width: 1.25mm; Reference Standard: AEC-Q200; Supplier: Digikey; Supplier Part Number: P360KCCT-ND; RoHS: Yes; Category: Chip SMD Resistors; Stock: 65767; Pricing: 1=0.11, 10=0.053, 50=0.0344, 100=0.0292, 500=0.02058, 1000=0.01792 (USD); Mounting Technology: Surface Mount; Pins: 2; Package Shape: Rectangular; Case/Package: 0805; Terminal Finish: Nickel; Min Operating Temperature: -55°C; Max Operating Temperature: 155°C; Tolerance: 1%; JESD-609 Code: e3; Resistor Type: FIXED RESISTOR; Construction: Rectangular; Package Style: SMTMeter; Packaging: Tape and Reel; Technology: METAL GLAZE/THICK FILM; Termination: Wraparound; Working Voltage: 150V; Reach SVHC Compliant: Yes; RoHS Compliant: Yes; ComponentLink1URL: https://datasheet.ciiva.com:443/pdfs/VipMasterIC/IC/PANA/PANA-S-A0009889626/PANA-S-A0009889626-1.pdf?src-supplier=IHS+Markit; ComponentLink1Description: https://datasheet.ciiva.com:443/pdfs/VipMasterIC/IC/PANA/PANA-S-A0009889626/PANA-S-A0009889626-1.pdf?src-supplier=IHS+Markit; ComponentLink2URL: https://datasheet.ciiva.com/11821/0900766b80f80784-11821629.pdf?src-supplier=Rs; ComponentLink2Description: https://datasheet.ciiva.com/11821/0900766b80f80784-11821629.pdf?src-supplier=Rs; ComponentLink3URL: https://datasheet.ciiva.com/22729/1678782-22729854.pdf?src-supplier=Farnell; ComponentLink3Description: https://datasheet.ciiva.com/22729/1678782-22729854.pdf?src-supplier=Farnell; ComponentLink4URL: https://datasheet.ciiva.com/9182/aoa0000ce2-9182742.pdf?src-supplier=Avnet; ComponentLink4Description: https://datasheet.ciiva.com/9182/aoa0000ce2-9182742.pdf?src-supplier=Avnet; ComponentLink5URL: https://datasheet.ciiva.com/46419/1678782-46419895.pdf?src-supplier=Element14; ComponentLink5Description: https://datasheet.ciiva.com/46419/1678782-46419895.pdf?src-supplier=Element14; ComponentLink6URL: https://datasheet.ciiva.com/22739/1678782-22739743.pdf?src-supplier=Element14; ComponentLink6Description: https://datasheet.ciiva.com/22739/1678782-22739743.pdf?src-supplier=Element14
footprint R_0805 (Chip Resistor, 2-Leads, Body 2.00x1.25mm, IPC Low Density)
pins: 1, 2